# EAGLE library part RESNET_ISO_7 (library kwoo)
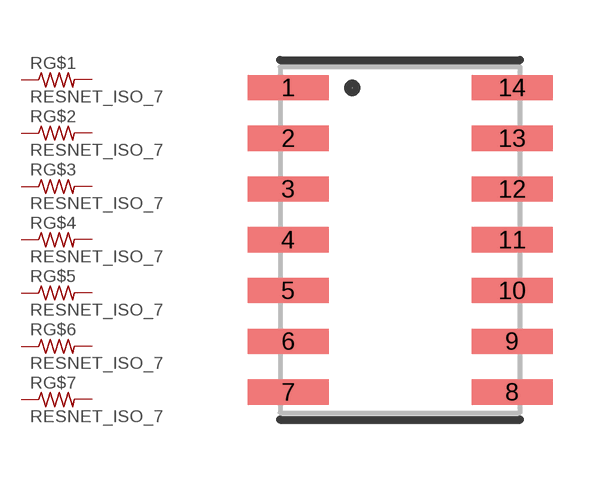
[diagram p32: symbol with the pads of 14-SOIC_CTS; footprint 14-SOIC_CTS]

Designator prefix R; gates G$1=R-US G$2=R-US G$3=R-US G$4=R-US G$5=R-US G$6=R-US G$7=R-US

## RESNET_ISO_7  [14-SOIC_CTS]
1  G$1:1  pas
2  G$2:1  pas
3  G$3:1  pas
4  G$4:1  pas
5  G$5:1  pas
6  G$6:1  pas
7  G$7:1  pas
8  G$7:2  pas
9  G$6:2  pas
10  G$5:2  pas
11  G$4:2  pas
12  G$3:2  pas
13  G$2:2  pas
14  G$1:2  pas

## Footprint 14-SOIC_CTS (pad centres in mm)
14-SOIC CTS This is a non standard variant of the SOIC package for the CTS Electronics Components Resnets series 766.
smd 2.03 x 0.63: 1 -2.8,3.81; 2 -2.8,2.54; 3 -2.8,1.27; 4 -2.8,0; 5 -2.8,-1.27; 6 -2.8,-2.54; 7 -2.8,-3.81; 8 2.8,-3.81; 9 2.8,-2.54; 10 2.8,-1.27; 11 2.8,0; 12 2.8,1.27; 13 2.8,2.54; 14 2.8,3.81